# Altium schematic symbol library 1SS389.SchLib: 1 symbol
Pins are listed as number, name and electrical type; pins without a type are passive.

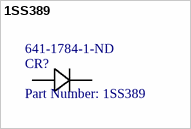
[diagram p0: symbol 1SS389]

## 1SS389
designator CR?, comment Part Number: 1SS389  Supplier Part Number 1: 641-1784-1-ND
No Description Available; Manufacturer: Comchip; Manufacturer Part Number: 1SS389-G; Built_By: EMA_Kyle; Vendor: Toshiba; Type: DEV; Description: DIODE SCHOTTKY 10V 100MA SOD523; Average Rectified Current: 100mA; Max Reverse Voltage (DC): 10V; Copyright: Copyright (C) 2016 Accelerated Designs. All rights reserved; Manufacturer_Part_Number: 1SS389; RefDes: RefDes; Value: Value; Supplier 1: Digi-Key; Stock 1: 2304; Pricing 1: 1=0.22, 10=0.184, 25=0.154, 100=0.0975, 250=0.07524, 500=0.06412, 1000=0.04361 (USD); Mount: Surface Mount; Packaging: Tape and Reel; ComponentLink1URL: http://www.comchiptech.com/cms/UserFiles/1SS389-G%20RevA305239.pdf?src-supplier=Digi-Key; ComponentLink1Description: http://www.comchiptech.com/cms/UserFiles/1SS389-G%20RevA305239.pdf?src-supplier=Digi-Key; ComponentLink2URL: http://www.comchiptech.com/admin/files/product/1SS389-G RevA305239.pdf?src-supplier=Digi-Key; ComponentLink2Description: http://www.comchiptech.com/admin/files/product/1SS389-G RevA305239.pdf?src-supplier=Digi-Key
footprint ESC
pins: 1 CATHODE, 2 ANODE